# Altium schematic symbol library MPQ5073xx.SCHLIB: 1 symbol
Pins are listed as number, name and electrical type; pins without a type are passive.

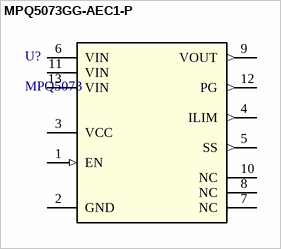
[diagram p0: symbol MPQ5073GG-AEC1-P]

## MPQ5073GG-AEC1-P
designator U?, comment MPQ5073
No Description Available; Manufacturer: Monolithic Power Systems; Manufacturer Part Number: MPQ5073GG-AEC1-P; Value: MPQ5073
footprint QFN-2X2_MPQ5073_MNP (Footprint not found)
pins: 1 EN (in), 2 GND (power), 3 VCC (power), 4 ILIM (out), 5 SS (out), 6 VIN (power), 7 NC, 8 NC, 9 VOUT (out), 10 NC, 11 VIN (power), 12 PG (out), 13 VIN (power)